# Altium schematic symbol library RES 25.0 1.5W.Schlib: 1 symbol
Pins are listed as number, name and electrical type; pins without a type are passive.

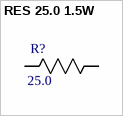
[diagram p0: symbol RES 25.0 1.5W]

## RES 25.0 1.5W
designator R?, comment 25.0
RES SMD 25 OHM 2% 1.5W 0603; Value: 25; Power (Watts): 1.5; Package: 0603; Tolerance: 2%; Supplier 1: Digi-Key; Supplier Part Number 1: 541-2654-1-ND
footprint 0603 (Chip Resistor, 2-Leads, Body 1.60x0.80mm, IPC High Density)
pins: 1, 2